# Altium schematic symbol library TPS92360DCKR.SchLib: 1 symbol
Pins are listed as number, name and electrical type; pins without a type are passive.

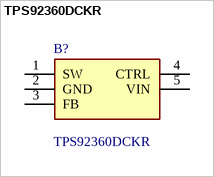
[diagram p0: symbol TPS92360DCKR]

## TPS92360DCKR
designator B?
LED Lighting Drivers 38-V 1.2-A single channel LED backlight driver 5-SC70 -40 to 85; Manufacturer_Name: Texas Instruments; Geometry.Height: 1.1mm; Mouser Part Number: 595-TPS92360DCKR; Mouser Price/Stock: https://www.mouser.co.uk/ProductDetail/Texas-Instruments/TPS92360DCKR?qs=TuK3vfAjtkVCHAFNej%252BeDQ%3D%3D; Manufacturer_Part_Number: TPS92360DCKR; Datasheet Link: https://www.mouser.de/ProductDetail/Texas-Instruments/TPS92360DCKR?qs=TuK3vfAjtkVCHAFNej%252BeDQ%3D%3D
footprint SOT65P210X110-5N
pins: 1 SW, 2 GND, 3 FB, 4 CTRL, 5 VIN